# EAGLE library part RCLAMP0502A (library Controller)
Semtech RClamp0502A Low Capacitance TVS Array
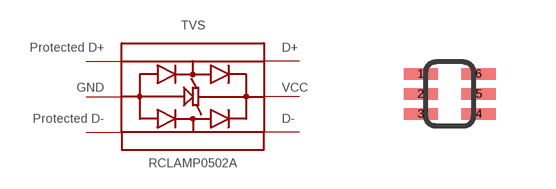
[diagram p18: symbol with the pads of SOT-666; footprint SOT-666]

Designator prefix TVS

## RCLAMP0502A  [SOT-666]
1  1
2  2
3  3
4  4
5  5
6  6

## Footprint SOT-666 (pad centres in mm)
smd 0.85 x 0.3: 1 -0.725,0.5; 2 -0.725,0; 3 -0.725,-0.5; 4 0.725,-0.5; 5 0.725,0; 6 0.725,0.5